# Altium footprint library PcbLib2.PcbLib: 14 footprints
Each footprint in its own frame and in the unit in brackets; x right, y up, seen from the top. Pads: shape width x height; smd on the part's side, far side on the other; paste and mask are expansions set on the pad; w line width, h text height; cw(c..) or ccw(c..) is an arc to the next point about the centre after c.
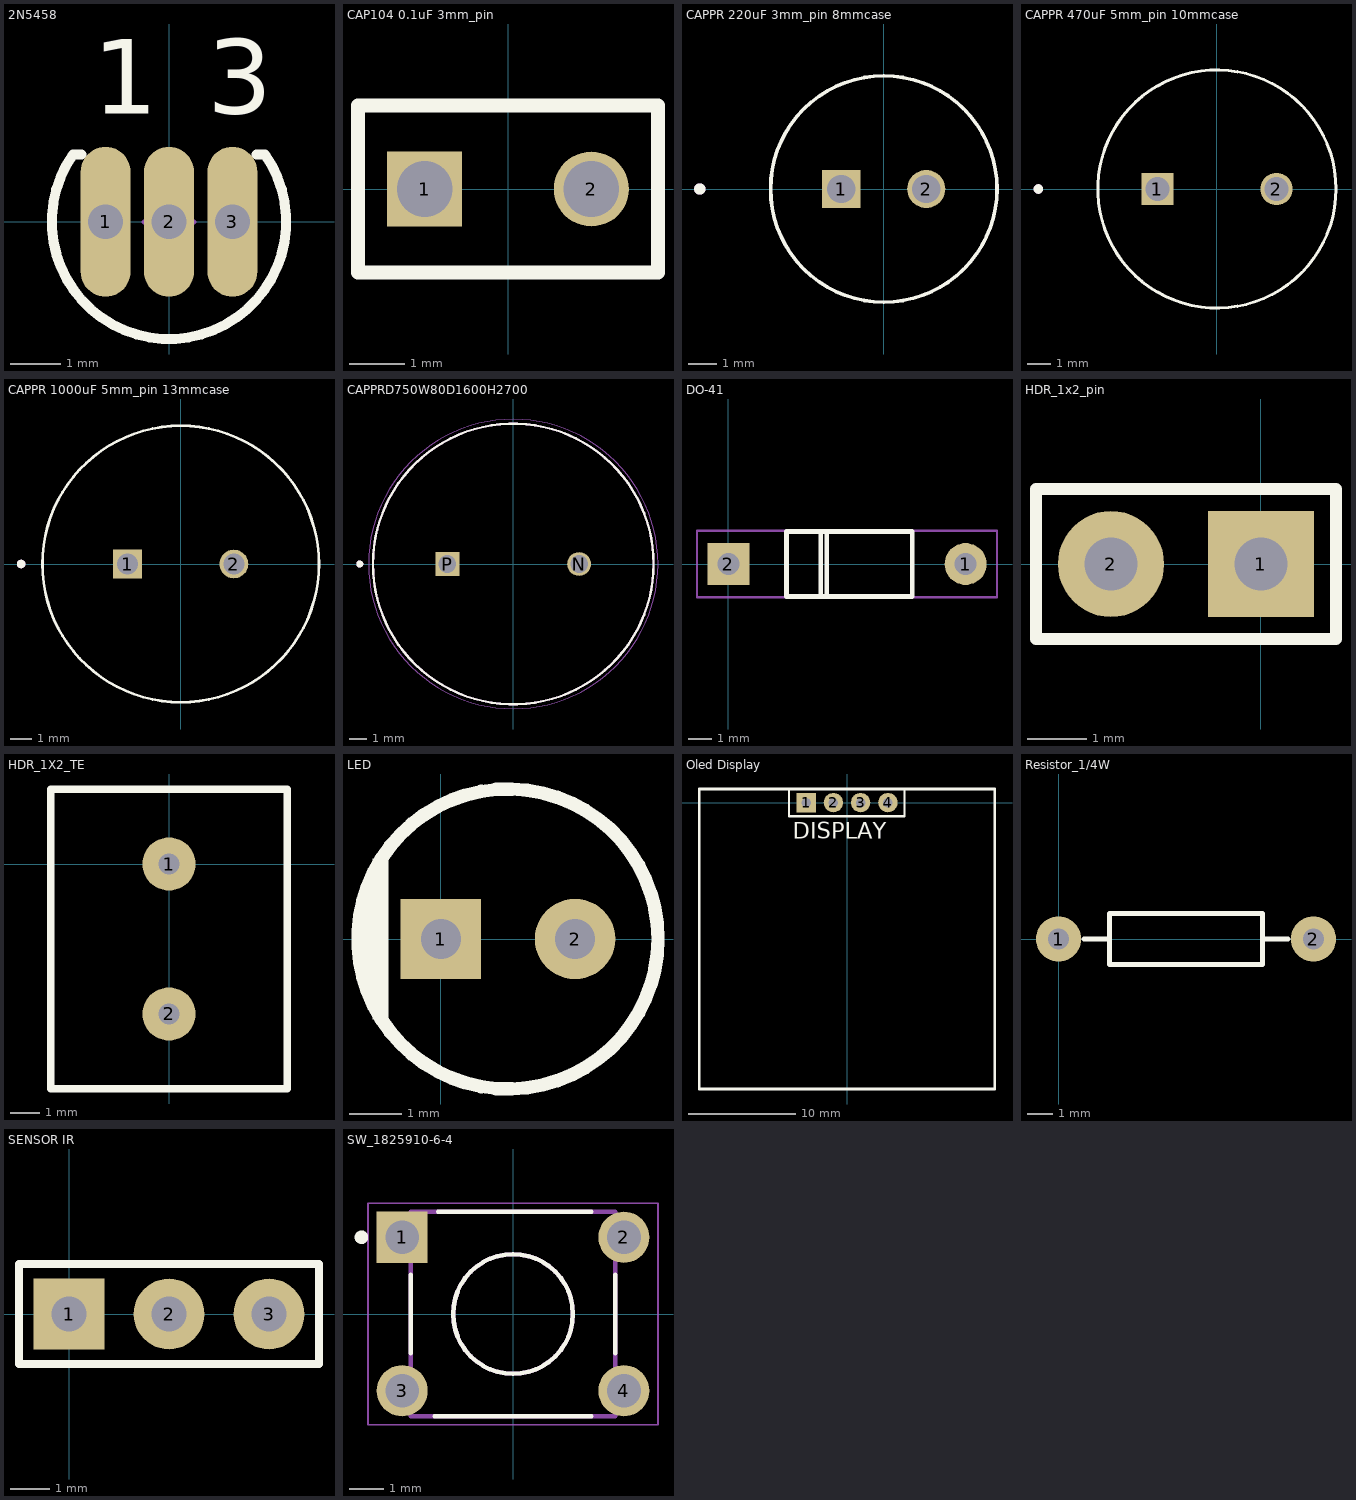
[diagram p0: the footprints below, top view; thin cyan lines are the x and y axes]

## 2N5458 [mm] "Jfet"
pads (3):
  oval 1x3 hole 0.7: 1(-1.27,0) 2(0,0) 3(1.27,0)
Top Overlay:
  lines w0.2: -1.75,1.35 -1.92,1.35 ccw(c0,0) 1.92,1.35 1.75,1.35
  text "1" at -1.524,2.159 h1.5
  text "3" at 0.762,2.159 h1.5
Mechanical 15:
  lines w0.1: -0.5,0 0.5,0 ; 0,-0.5 0,0.5

## CAP104 0.1uF 3mm_pin [mm] "104 Ceramic cap"
pads (2):
  rect 1.35x1.35 / inner round 1.35 / far side rect 1.35x1.35 hole 1: 1(-1.5,0)
  round 1.35 hole 1: 2(1.5,0)
Top Overlay:
  lines w0.254: -2.7,-1.5 2.7,-1.5 2.7,0 2.7,1.5 -2.7,1.5 -2.7,0 -2.7,-1.5

## CAPPR 220uF 3mm_pin 8mmcase [mm]
pads (2):
  rect 1.35x1.35 / inner round 1.35 / far side rect 1.35x1.35 hole 1: 1(-1.5,0)
  round 1.35 hole 1: 2(1.5,0)
Top Overlay:
  circle w0.127: c0,0 r4
  circle w0.2: c-6.5,0 r0.1
Mechanical 13:
  circle w0.2: c-6.5,0 r0.1

## CAPPR 470uF 5mm_pin 10mmcase [mm]
pads (2):
  rect 1.35x1.35 / inner round 1.35 / far side rect 1.35x1.35 hole 1: 1(-2.5,0)
  round 1.35 hole 1: 2(2.5,0)
Top Overlay:
  circle w0.127: c0,0 r5
  circle w0.2: c-7.5,0 r0.1
Mechanical 13:
  circle w0.2: c-7.5,0 r0.1

## CAPPR 1000uF 5mm_pin 13mmcase [mm]
pads (2):
  rect 1.35x1.35 / inner round 1.35 / far side rect 1.35x1.35 hole 1: 1(-2.5,0)
  round 1.35 hole 1: 2(2.5,0)
Top Overlay:
  circle w0.2: c-7.5,0 r0.1
  circle w0.127: c0,0 r6.5
Mechanical 13:
  circle w0.2: c-7.5,0 r0.1

## CAPPRD750W80D1600H2700 [mm]
pads (2):
  round 1.35 hole 1: N(3.75,0)
  rect 1.35x1.35 / inner round 1.35 / far side rect 1.35x1.35 hole 1: P(-3.75,0)
Top Overlay:
  circle w0.127: c0,0 r8
  circle w0.2: c-8.75,0 r0.1
Mechanical 13:
  circle w0.127: c0,0 r8
  circle w0.2: c-8.75,0 r0.1
Mechanical 15:
  circle w0.05: c0,0 r8.25

## DO-41 [mm]
pads (2):
  round 1.8 hole 0.94: 1(10.2,0)
  rect 1.8x1.8 hole 0.94: 2(0,0)
Top Overlay:
  lines w0.2: 3.972,-1.4 3.972,1.4 ; 4.222,-1.4 4.222,1.4 ; 7.9,-1.4 2.5,-1.4 2.5,1.4 7.9,1.4 7.9,-1.397
Mechanical 15:
  lines w0.1: -1.35,-1.425 11.55,-1.425 11.55,1.425 -1.35,1.425 -1.35,-1.425

## HDR_1x2_pin [mm]
pads (2):
  rect 1.8x1.8 hole 0.9: 1(0,0)
  round 1.8 hole 0.9: 2(-2.54,0)
Top Overlay:
  lines w0.2: -3.81,-1.27 1.27,-1.27 1.27,1.27 -3.81,1.27 -3.81,-1.27

## HDR_1X2_TE [mm] "282836-2"
pads (2):
  round 1.8 hole 0.7: 1(0,0) 2(0,-5.08)
Top Overlay:
  lines w0.254: -4,-7.62 -4,2.54 4,2.54 4,-7.62 -4,-7.62

## LED [mil]
pads (2):
  rect 60x60 hole 30: 1(0,0)
  round 60 hole 30: 2(100,0)
Top Overlay:
  circle w10: c50,0 r111.8
  rectangle: -51,-60 -39,60
  rectangle: -58,-40 -50,41

## Oled Display [mm]
pads (4):
  rect 1.8x1.8 hole 0.9: 1(-3.81,0)
  round 1.8 hole 0.9: 2(-1.27,0) 3(1.27,0) 4(3.81,0)
Top Overlay:
  lines w0.2: -5.392,-1.27 5.364,-1.27 5.364,1.27 -5.392,1.27 -5.392,-1.27
  lines w0.254: -13.75,-26.67 -13.75,1.27 -0.014,1.27 13.75,1.27 13.75,-26.67 -13.75,-26.67
  text "DISPLAY" at -5.053,-3.364 h1.52

## Resistor_1/4W [mm] "Res_2mm_AxialTH"
pads (2):
  round 1.8 hole 0.85: 1(0,0) 2(10.16,0)
Top Overlay:
  lines w0.2: 1.016,0 2.032,0 ; 8.128,0 9.144,0 ; 2.032,-1.016 2.032,1.016 8.128,1.016 8.128,-1.016 2.032,-1.016

## SENSOR IR [mm]
pads (3):
  rect 1.8x1.8 hole 0.9: 1(0,0)
  round 1.8 hole 0.9: 2(2.54,0) 3(5.08,0)
Top Overlay:
  lines w0.2: -1.27,-1.27 -1.27,1.27 6.35,1.27 6.35,-1.27 -1.27,-1.27

## SW_1825910-6-4 [mm]
pads (4):
  rect 1.498x1.498 / inner round 1.498 / far side rect 1.498x1.498 hole 0.99: 1(-3.25,2.25)
  round 1.498 hole 0.99: 2(3.25,2.25) 3(-3.25,-2.25) 4(3.25,-2.25)
Top Overlay:
  circle w0.127: c0,0 r1.755
  circle w0.2: c-4.445,2.25 r0.1
  lines w0.127: -2.995,-1.15 -2.995,1.15 ; -2.3,-2.995 2.3,-2.995 ; -2.2,2.995 2.3,2.995 ; 3,-1.15 3,1.15
Mechanical 13:
  circle w0.127: c0,0 r1.755
  lines w0.127: -2.995,-2.995 -2.995,2.995 2.995,2.995 2.995,-2.995 -2.995,-2.995
Mechanical 15:
  lines w0.05: -4.25,-3.25 -4.25,3.25 4.25,3.25 4.25,-3.25 -4.25,-3.25
3D body "step_temp.STEP": height 5.01, standoff -3.51, extent -3.898,-2.995 3.9,2.995